# EAGLE library part 2X7 (library headers_2mm)
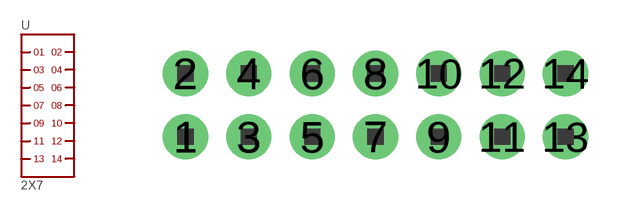
[diagram p7: symbol with the pads of 2X7; footprint 2X7]

Designator prefix -

## 2X7  [2X7]
1  1
2  2
3  3
4  4
5  5
6  6
7  7
8  8
9  9
10  10
11  11
12  12
13  13
14  14

## Footprint 2X7 (pad centres in mm)
drill 0.8 pad 1.422: 1 -6,-1; 2 -6,1; 3 -4,-1; 4 -4,1; 5 -2,-1; 6 -2,1; 7 0,-1; 8 0,1; 9 2,-1; 10 2,1; 11 4,-1; 12 4,1; 13 6,-1; 14 6,1